# Altium footprint library TANTALUM_X.PcbLib: 1 footprints
Each footprint in its own frame and in the unit in brackets; x right, y up, seen from the top. Pads: shape width x height; smd on the part's side, far side on the other; paste and mask are expansions set on the pad; w line width, h text height; cw(c..) or ccw(c..) is an arc to the next point about the centre after c.
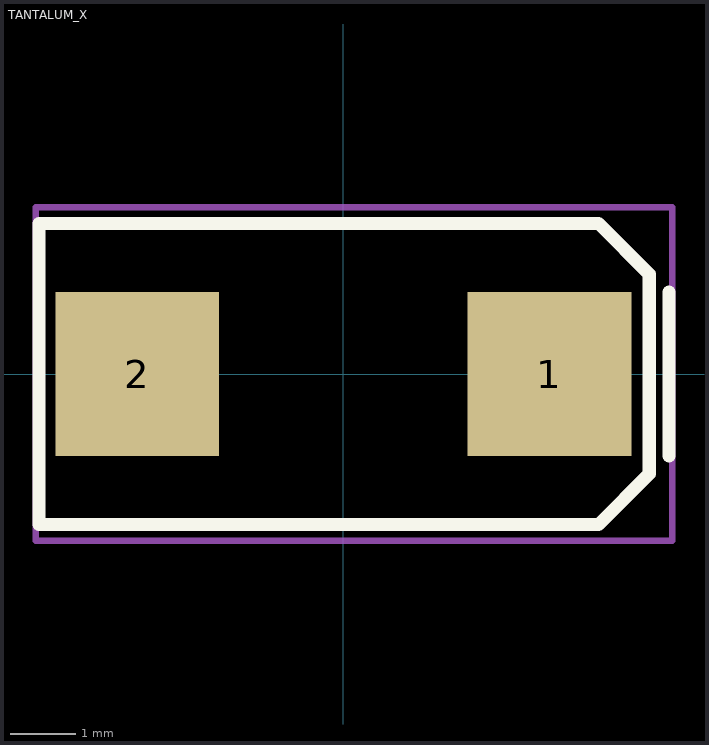
[diagram p0: the footprint, top view; thin cyan lines are the x and y axes]

## TANTALUM_X [mm]
pads (2):
  rect 2.5x2.5 smd: 1(3.15,0) 2(-3.15,0)
Top Overlay:
  lines w0.2: 4.975,-1.25 4.975,1.25 ; -4.65,-2.3 3.9,-2.3 4.675,-1.525 4.675,1.525 3.9,2.3 -4.65,2.3 -4.65,-2.3
Top Courtyard:
  lines w0.1: -4.7,-2.55 -4.7,2.55 5.025,2.55 5.025,-2.55 -4.7,-2.55
3D body "T521X336M050ATE075.step": height 4.31, standoff -0.03, extent -3.8,-2.3 3.8,2.3